# Altium schematic symbol library LM3671.Schlib: 1 symbol
Pins are listed as number, name and electrical type; pins without a type are passive.

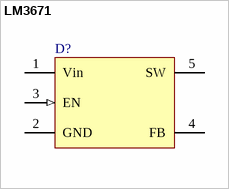
[diagram p0: symbol LM3671]

## LM3671
designator D?
Step Down Switching Regulator; Package Information: Latest Revision: ver11.0, Feb-2003; Configures: APEX II, APEX 20K, Mercury, ACEX 1K & FLEX Devices; Code - JEDEC: MS-026-ABA; Published: 17-Sep-2003; Datasheet: Latest Revision: ver1.1, Oct-2003; Package Reference: TQFP32; Publisher: Altium Limited
footprint SOT23-5
pins: 1 Vin (power), 2 GND (power), 3 EN (in), 4 FB (power), 5 SW (power)